# Altium schematic symbol library memo.SchLib: 55 symbols
Pins are listed as number, name and electrical type; pins without a type are passive.

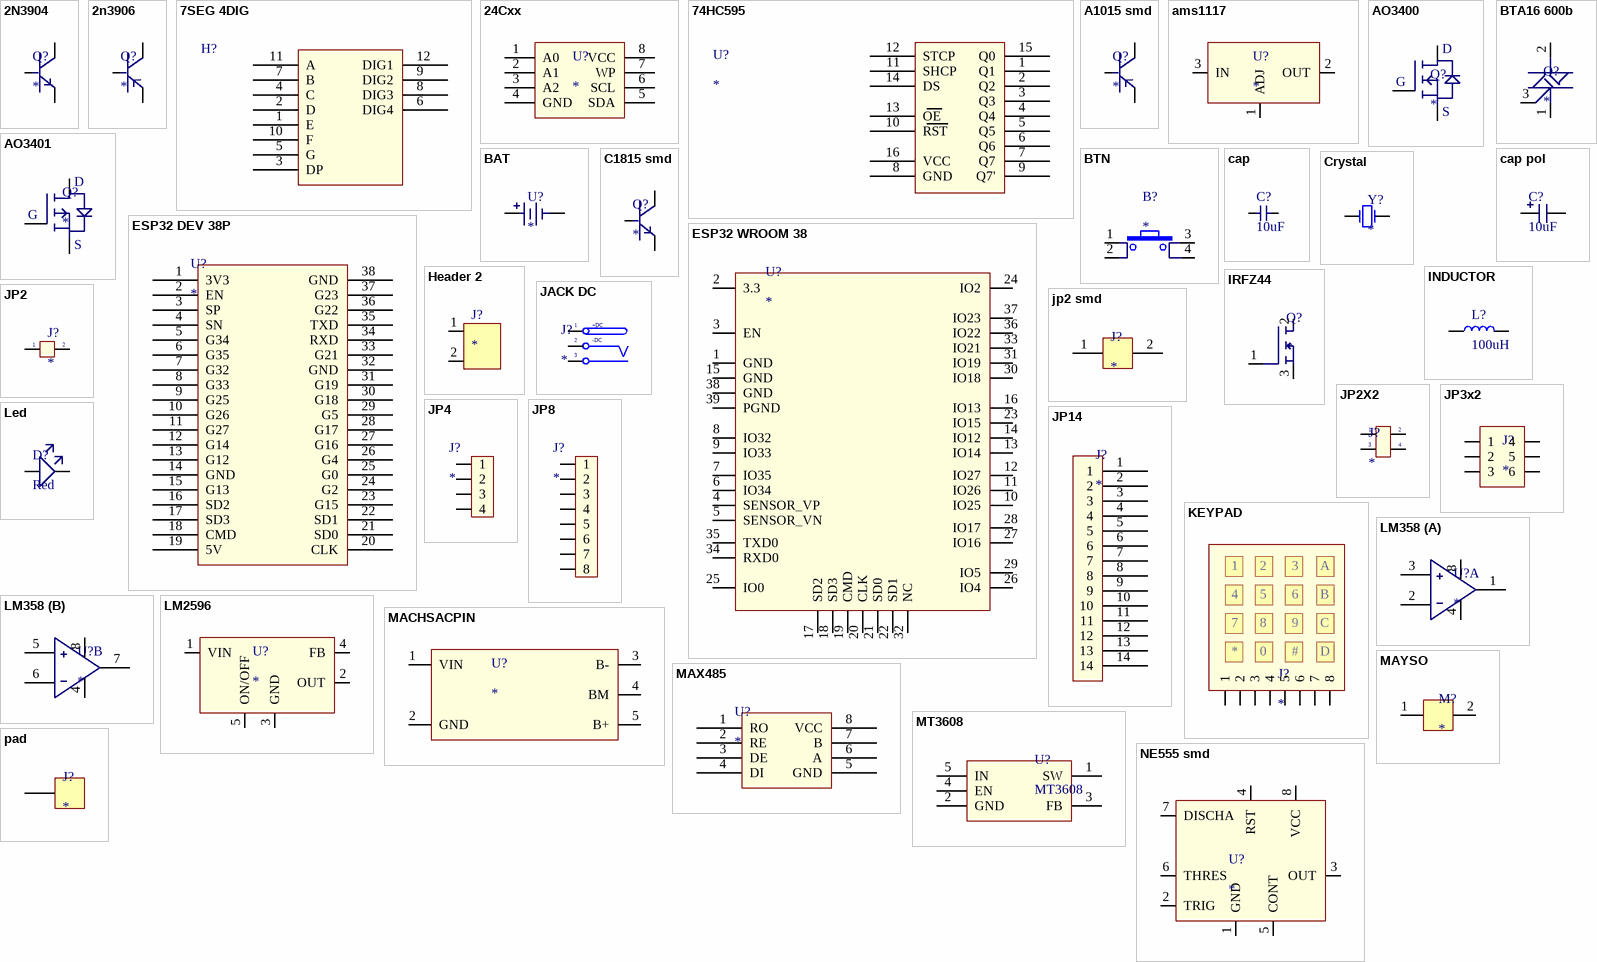
[diagram p0: symbols 2N3904 to pad]

## 2N3904
designator Q?
footprint 2N3904
pins: 1 E, 2 B, 3 C

## 2n3906
designator Q?
footprint 2N3904
pins: 1 E, 2 B, 3 C

## 7SEG 4DIG
designator H?
footprint 7SEG 4DIG
pins: 1 E, 2 D, 3 DP, 4 C, 5 G, 6 DIG4, 7 B, 8 DIG3, 9 DIG2, 10 F, 11 A, 12 DIG1

## 24Cxx
designator U?
footprint DIP8
pins: 1 A0, 2 A1, 3 A2, 4 GND (power), 5 SDA, 6 SCL, 7 WP, 8 VCC (power)

## 74HC595
designator U?
footprint SOIC16
pins: 1 Q1, 2 Q2, 3 Q3, 4 Q4, 5 Q5, 6 Q6, 7 Q7, 8 GND, 9 Q7', 10 RST, 11 SHCP, 12 STCP, 13 OE, 14 DS, 15 Q0, 16 VCC

## A1015 smd
designator Q?
footprint Trans SOT23
pins: 1 B, 2 E, 3 C

## ams1117
designator U?
footprint ams1117 SOT223
pins: 1 ADJ, 2 OUT, 3 IN

## AO3400
designator Q?
footprint Trans SOT23
pins: 1 G, 2 S, 3 D

## AO3401
designator Q?
footprint Trans SOT23
pins: 1 G, 2 S, 3 D

## BAT
designator U?
footprint BAT
pins: 1, 2

## BTA16 600b
designator Q?
footprint IRFZ44
pins: 1 A1, 2 A2, 3 G

## BTN
designator B?
footprint BUTTON 4p 6x6
pins: 1, 2, 3, 4

## C1815 smd
designator Q?
footprint Trans SOT23
pins: 1 B, 2 E, 3 C

## cap
designator C?, comment 10uF
footprint cap 0805
footprint cap 0603
footprint cap 1206
pins: 1, 2

## cap pol
designator C?, comment 10uF
footprint cap pol 5x54
footprint cap pol 63x54
pins: 1, 2

## Crystal
designator Y?
footprint XTAL
footprint JP2
pins: 1 OSC1, 2 OSC2

## ESP32 DEV 38P
designator U?
footprint esp32 dev38p
pins: 1 3V3, 2 EN, 3 SP, 4 SN, 5 G34, 6 G35, 7 G32, 8 G33, 9 G25, 10 G26, 11 G27, 12 G14, 13 G12, 14 GND, 15 G13, 16 SD2, 17 SD3, 18 CMD, 19 5V, 20 CLK, 21 SD0, 22 SD1, 23 G15, 24 G2, 25 G0, 26 G4, 27 G16, 28 G17, 29 G5, 30 G18, 31 G19, 32 GND, 33 G21, 34 RXD, 35 TXD, 36 G22, 37 G23, 38 GND

## ESP32 WROOM 38
designator U?
footprint ESP32 WROOM 38
pins: 1 GND, 2 3.3, 3 EN, 4 SENSOR_VP, 5 SENSOR_VN, 6 IO34, 7 IO35, 8 IO32, 9 IO33, 10 IO25, 11 IO26, 12 IO27, 13 IO14, 14 IO12, 15 GND, 16 IO13, 17 SD2, 18 SD3, 19 CMD, 20 CLK, 21 SD0, 22 SD1, 23 IO15, 24 IO2, 25 IO0, 26 IO4, 27 IO16, 28 IO17, 29 IO5, 30 IO18, 31 IO19, 32 NC, 33 IO21, 34 RXD0, 35 TXD0, 36 IO22, 37 IO23, 38 GND, 39 PGND

## Header 2
designator J?
footprint Header 2
pins: 1, 2

## INDUCTOR
designator L?, comment 100uH
footprint ind 74
footprint ind 127
footprint ind cd43
footprint ind cd52
pins: 1, 2

## IRFZ44
designator Q?
footprint IRFZ44
pins: 1 G, 2 D, 3 S

## JACK DC
designator J?
footprint JACK DC
pins: 1 T "Tip", 2 TN "Tip Normal (Break Contact)", 3 S (power) "Sleeve (Ground)"
text: +DC; -DC

## JP2
designator J?
footprint JP2
pins: 1, 2

## jp2 smd
designator J?
footprint jp2 smd
pins: 1, 2

## JP2X2
designator J?
footprint JP2X2
pins: 1, 2, 3, 4

## JP3x2
designator J?
footprint JP3x2
pins: 1, 2, 3, 4, 5, 6

## JP4
designator J?
footprint JP4
pins: 1, 2, 3, 4

## JP8
designator J?
footprint JP8
pins: 1, 2, 3, 4, 5, 6, 7, 8

## JP14
designator J?
footprint JP14
pins: 1, 2, 3, 4, 5, 6, 7, 8, 9, 10, 11, 12, 13, 14

## KEYPAD
designator J?
footprint JP8
pins: 1, 2, 3, 4, 5, 6, 7, 8
text: A; B; 9; C; 0; #; D

## Led
designator D?, comment Red
footprint Led 0805
footprint LED 1206
footprint LED 0603
pins: A 1, K 2

## LM358
designator U?
footprint SOP8
part A pins: 1, 2, 3, 4, 8
part B pins: 4, 5, 6, 7, 8

## LM2596
designator U?
footprint LM2596
pins: 1 VIN, 2 OUT, 3 GND, 4 FB, 5 ON/OFF

## MACHSACPIN
designator U?
footprint MACHSACPIN
pins: 1 VIN, 2 GND, 3 B-, 4 BM, 5 B+

## MAX485
designator U?
footprint SOP8
pins: 1 RO, 2 RE, 3 DE, 4 DI, 5 GND, 6 A, 7 B, 8 VCC

## MAYSO
designator M?
footprint MAYSO
pins: 1, 2

## MT3608
designator U?
footprint MT3608  TSOT23-6
pins: 1 SW, 2 GND, 3 FB, 4 EN, 5 IN

## NE555 smd
designator U?
footprint SOP8
pins: 1 GND, 2 TRIG, 3 OUT, 4 RST, 5 CONT, 6 THRES, 7 DISCHA, 8 VCC

## pad
designator J?
footprint pad hole
footprint PAD SMD
pins: 1

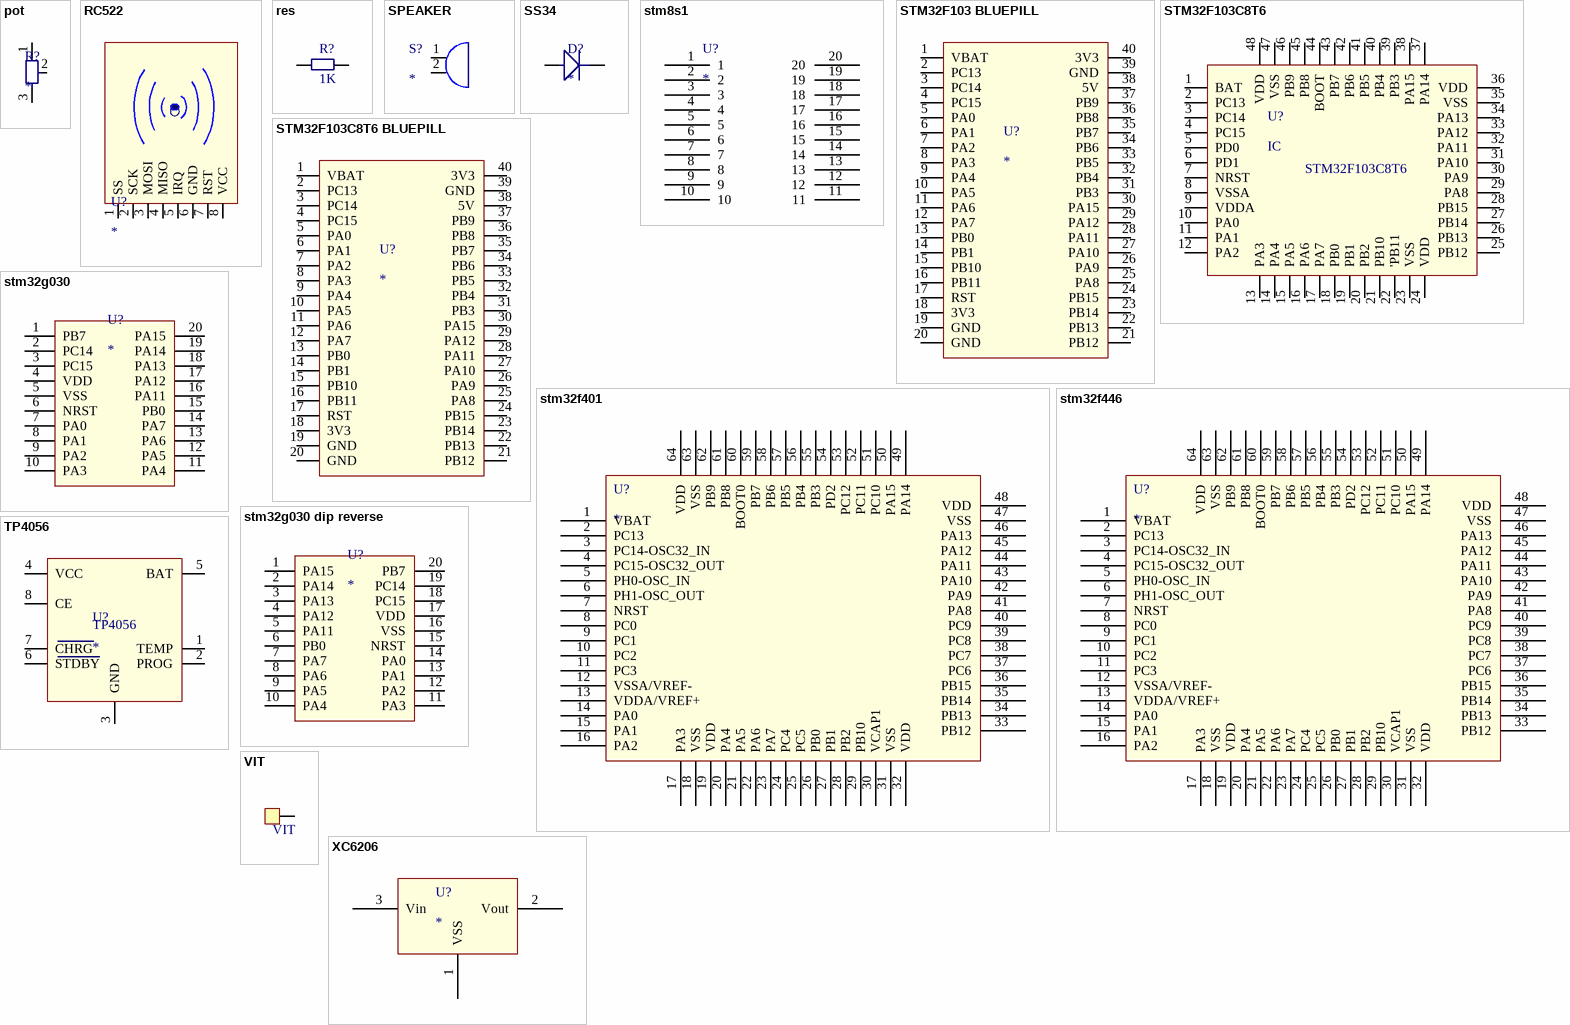
[diagram p1: symbols pot to XC6206]

## pot
designator R?
footprint pot smd
footprint JP3
pins: 1, 2, 3

## RC522
designator U?
footprint JP8
pins: 1 SS, 2 SCK, 3 MOSI, 4 MISO, 5 IRQ, 6 GND, 7 RST, 8 VCC

## res
designator R?, comment 1K
footprint Res 0603
footprint Res 0805
footprint Res 1206
footprint res 1/4w
footprint RES 2512
pins: 1, 2

## SPEAKER
designator S?
footprint SPEAKER
pins: 1 A, 2 B

## SS34
designator D?
footprint Diode SS34
pins: 1, 2

## stm8s1
designator U?
pins: 1, 2, 3, 4, 5, 6, 7, 8, 9, 10, 11, 12, 13, 14, 15, 16, 17, 18, 19, 20

## STM32F103 BLUEPILL
designator U?
footprint STM32 BLUEPILL
pins: 1 VBAT, 2 PC13, 3 PC14, 4 PC15, 5 PA0, 6 PA1, 7 PA2, 8 PA3, 9 PA4, 10 PA5, 11 PA6, 12 PA7, 13 PB0, 14 PB1, 15 PB10, 16 PB11, 17 RST, 18 3V3, 19 GND, 20 GND, 21 PB12, 22 PB13, 23 PB14, 24 PB15, 25 PA8, 26 PA9, 27 PA10, 28 PA11, 29 PA12, 30 PA15, 31 PB3, 32 PB4, 33 PB5, 34 PB6, 35 PB7, 36 PB8, 37 PB9, 38 5V, 39 GND, 40 3V3

## STM32F103C8T6
designator U?, comment IC
footprint LQFP48
pins: 1 BAT, 2 PC13, 3 PC14, 4 PC15, 5 PD0, 6 PD1, 7 NRST, 8 VSSA, 9 VDDA, 10 PA0, 11 PA1, 12 PA2, 13 PA3, 14 PA4, 15 PA5, 16 PA6, 17 PA7, 18 PB0, 19 PB1, 20 PB2, 21 PB10, 22 'PB11, 23 VSS, 24 VDD, 25 PB12, 26 PB13, 27 PB14, 28 PB15, 29 PA8, 30 PA9, 31 PA10, 32 PA11, 33 PA12, 34 PA13, 35 VSS, 36 VDD, 37 PA14, 38 PA15, 39 PB3, 40 PB4, 41 PB5, 42 PB6, 43 PB7, 44 BOOT, 45 PB8, 46 PB9, 47 VSS, 48 VDD

## STM32F103C8T6 BLUEPILL
designator U?
footprint STM32 BLUEPILL
pins: 1 VBAT, 2 PC13, 3 PC14, 4 PC15, 5 PA0, 6 PA1, 7 PA2, 8 PA3, 9 PA4, 10 PA5, 11 PA6, 12 PA7, 13 PB0, 14 PB1, 15 PB10, 16 PB11, 17 RST, 18 3V3, 19 GND, 20 GND, 21 PB12, 22 PB13, 23 PB14, 24 PB15, 25 PA8, 26 PA9, 27 PA10, 28 PA11, 29 PA12, 30 PA15, 31 PB3, 32 PB4, 33 PB5, 34 PB6, 35 PB7, 36 PB8, 37 PB9, 38 5V, 39 GND, 40 3V3

## stm32f401
designator U?
footprint LQFP64
pins: 1 VBAT, 2 PC13, 3 PC14-OSC32_IN, 4 PC15-OSC32_OUT, 5 PH0-OSC_IN, 6 PH1-OSC_OUT, 7 NRST, 8 PC0, 9 PC1, 10 PC2, 11 PC3, 12 VSSA/VREF-, 13 VDDA/VREF+, 14 PA0, 15 PA1, 16 PA2, 17 PA3, 18 VSS, 19 VDD, 20 PA4, 21 PA5, 22 PA6, 23 PA7, 24 PC4, 25 PC5, 26 PB0, 27 PB1, 28 PB2, 29 PB10, 30 VCAP1, 31 VSS, 32 VDD, 33 PB12, 34 PB13, 35 PB14, 36 PB15, 37 PC6, 38 PC7, 39 PC8, 40 PC9, 41 PA8, 42 PA9, 43 PA10, 44 PA11, 45 PA12, 46 PA13, 47 VSS, 48 VDD, 49 PA14, 50 PA15, 51 PC10, 52 PC11, 53 PC12, 54 PD2, 55 PB3, 56 PB4, 57 PB5, 58 PB6, 59 PB7, 60 BOOT0, 61 PB8, 62 PB9, 63 VSS, 64 VDD

## stm32f446
designator U?
footprint LQFP64
pins: 1 VBAT, 2 PC13, 3 PC14-OSC32_IN, 4 PC15-OSC32_OUT, 5 PH0-OSC_IN, 6 PH1-OSC_OUT, 7 NRST, 8 PC0, 9 PC1, 10 PC2, 11 PC3, 12 VSSA/VREF-, 13 VDDA/VREF+, 14 PA0, 15 PA1, 16 PA2, 17 PA3, 18 VSS, 19 VDD, 20 PA4, 21 PA5, 22 PA6, 23 PA7, 24 PC4, 25 PC5, 26 PB0, 27 PB1, 28 PB2, 29 PB10, 30 VCAP1, 31 VSS, 32 VDD, 33 PB12, 34 PB13, 35 PB14, 36 PB15, 37 PC6, 38 PC7, 39 PC8, 40 PC9, 41 PA8, 42 PA9, 43 PA10, 44 PA11, 45 PA12, 46 PA13, 47 VSS, 48 VDD, 49 PA14, 50 PA15, 51 PC10, 52 PC11, 53 PC12, 54 PD2, 55 PB3, 56 PB4, 57 PB5, 58 PB6, 59 PB7, 60 BOOT0, 61 PB8, 62 PB9, 63 VSS, 64 VDD

## stm32g030
designator U?
footprint TSSOP20
pins: 1 PB7, 2 PC14, 3 PC15, 4 VDD, 5 VSS, 6 NRST, 7 PA0, 8 PA1, 9 PA2, 10 PA3, 11 PA4, 12 PA5, 13 PA6, 14 PA7, 15 PB0, 16 PA11, 17 PA12, 18 PA13, 19 PA14, 20 PA15

## stm32g030 dip reverse
designator U?
footprint stm32g030 dip
pins: 1 PA15, 2 PA14, 3 PA13, 4 PA12, 5 PA11, 6 PB0, 7 PA7, 8 PA6, 9 PA5, 10 PA4, 11 PA3, 12 PA2, 13 PA1, 14 PA0, 15 NRST, 16 VSS, 17 VDD, 18 PC15, 19 PC14, 20 PB7

## TP4056
designator U?
footprint SOP8
pins: 1 TEMP, 2 PROG, 3 GND, 4 VCC, 5 BAT, 6 STDBY, 7 CHRG, 8 CE

## VIT
designator ?
footprint VIT
pins: 1

## XC6206
designator U?
footprint Trans SOT23
pins: 1 VSS, 2 Vout, 3 Vin